# Altium footprint library PCB.PcbLib: 35 footprints (part 2 of 3)
Each footprint in its own frame and in the unit in brackets; x right, y up, seen from the top. Pads: shape width x height; smd on the part's side, far side on the other; paste and mask are expansions set on the pad; w line width, h text height; cw(c..) or ccw(c..) is an arc to the next point about the centre after c.
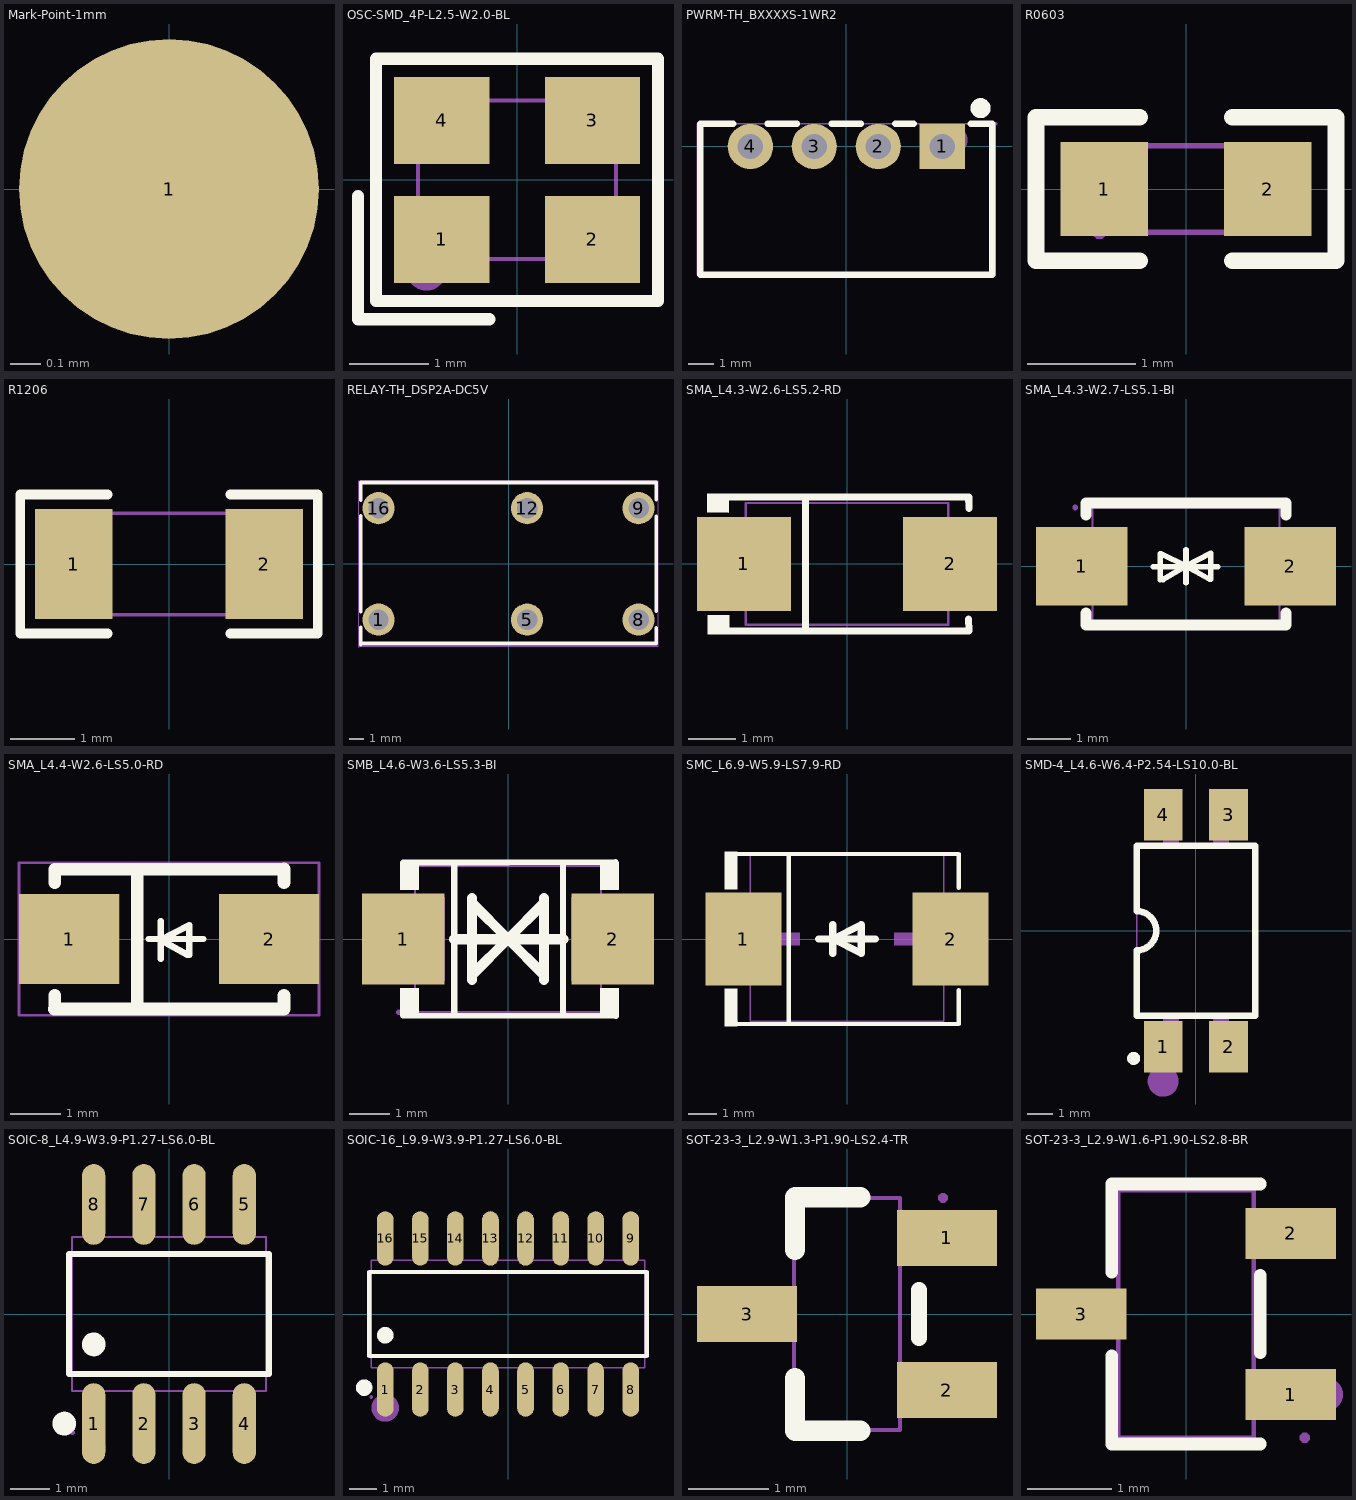
[diagram p1: the footprints below, top view; thin cyan lines are the x and y axes]

## Mark-Point-1mm [mm]
pads (1):
  round 1 smd paste-25.4 mask+0.051: 1(0,0)

## OSC-SMD_4P-L2.5-W2.0-BL [mm]
pads (4):
  rect 1.2x1.1 smd: 1(-0.95,-0.75) 2(0.95,-0.75) 3(0.95,0.75) 4(-0.95,0.75)
Top Overlay:
  lines w0.152: -2.007,-0.201 -2.007,-1.758 -0.351,-1.758 ; -1.779,-1.529 -1.779,1.529 1.779,1.529 1.779,-1.529 -1.779,-1.529
Mechanical 6:
  circle w0.254: c-1.143,-1.143 r0.127
  region: -1.143,0.635 -0.635,0.635 -0.635,0.508 -1.143,0.508
  region: -0.953,0.318 -0.953,0.826 -0.826,0.826 -0.826,0.318
  region: 0.635,-0.635 1.143,-0.635 1.143,-0.762 0.635,-0.762
Mechanical 15:
  region: -1.31,-1 -1.31,-1.025 -1.275,-1.06 -1.225,-1.06 -1.19,-1.025 -1.19,-1 -1.19,-0.975 -1.225,-0.94 -1.275,-0.94 -1.31,-0.975 -1.31,-1
  region: -1.25,1 -0.45,1 -0.45,0.325 -1.25,0.325
  region: -0.45,-1 -1.25,-1 -1.25,-0.325 -0.45,-0.325
  region: 1.25,0.325 0.45,0.325 0.45,1 1.25,1
  region: 1.25,-1 0.45,-1 0.45,-0.325 1.25,-0.325
  lines w0.051: -1.25,-1 -1.25,1 1.25,1 1.25,-1 -1.25,-1

## PWRM-TH_BXXXXS-1WR2 [mm]
pads (4):
  rect 1.8x1.8 hole 1: 1(3.81,0)
  round 1.8 hole 1: 2(1.27,0) 3(-1.27,0) 4(-3.81,0)
Top Overlay:
  circle w0.4: c5.334,1.524 r0.2
  lines w0.254: -4.494,0.9 -5.8,0.9 -5.8,-5.1 5.8,-5.1 5.8,0.9 4.941,0.9 ; -3.126,0.9 -1.954,0.9 ; -0.586,0.9 0.586,0.9 ; 1.954,0.9 2.679,0.9
Mechanical 6:
  circle w0.5: c4.318,0.254 r0.25
Mechanical 15:
  region: 4.06,-0.15 3.56,-0.15 3.56,0.15 4.06,0.15
  region: 1.52,0.15 1.52,-0.15 1.02,-0.15 1.02,0.15
  region: -1.02,0.15 -1.02,-0.15 -1.52,-0.15 -1.52,0.15
  region: -3.56,0.15 -3.56,-0.15 -4.06,-0.15 -4.06,0.15
  region: 5.987,0.9 5.987,0.925 5.952,0.96 5.902,0.96 5.867,0.925 5.867,0.9 5.867,0.875 5.902,0.84 5.952,0.84 5.987,0.875 5.987,0.9
  lines w0.051: -5.927,-5.1 -5.927,0.9 5.927,0.9 5.927,-5.1 -5.927,-5.1

## R0603 [mm]
pads (2):
  rect 0.806x0.864 smd paste-100 mask+0.051: 1(-0.753,0) 2(0.753,0)
Top Overlay:
  lines w0.152: -0.426,-0.661 -1.385,-0.661 -1.385,0.661 -0.426,0.661 ; 0.426,-0.661 1.385,-0.661 1.385,0.661 0.426,0.661
Top Paste:
  region: -1.195,-0.45 -0.395,-0.45 -0.345,-0.4 -0.345,-0.172 -0.715,-0.172 -0.715,0.158 -0.345,0.158 -0.345,0.4 -0.395,0.45 -1.195,0.45 -1.245,0.4 -1.245,-0.4
  region: 1.195,0.45 0.395,0.45 0.345,0.4 0.345,0.172 0.715,0.172 0.715,-0.158 0.345,-0.158 0.345,-0.4 0.395,-0.45 1.195,-0.45 1.245,-0.4 1.245,0.4
Mechanical 15:
  region: 0.8,-0.4 0.8,0.4 0.5,0.4 0.5,-0.4
  region: -0.8,-0.4 -0.8,0.4 -0.5,0.4 -0.5,-0.4
  region: -0.86,-0.4 -0.86,-0.425 -0.825,-0.46 -0.775,-0.46 -0.74,-0.425 -0.74,-0.4 -0.74,-0.375 -0.775,-0.34 -0.825,-0.34 -0.86,-0.375 -0.86,-0.4
  lines w0.051: -0.8,-0.4 0.8,-0.4 0.8,0.4 -0.8,0.4 -0.8,-0.4

## R1206 [mm]
pads (2):
  rect 1.208x1.701 smd paste-100 mask+0.051: 1(-1.479,0) 2(1.479,0)
Top Overlay:
  lines w0.152: -0.951,-1.079 -2.311,-1.079 -2.311,1.079 -0.951,1.079 ; 0.951,-1.079 2.311,-1.079 2.311,1.079 0.951,1.079
Top Paste:
  region: -0.875,-0.75 -0.875,-0.389 -0.975,-0.289 -1.186,-0.289 -1.286,-0.189 -1.286,0.189 -1.186,0.289 -0.975,0.289 -0.875,0.389 -0.875,0.75 -0.975,0.85 -1.983,0.85 -2.083,0.75 -2.083,-0.75 -1.983,-0.85 -0.975,-0.85
  region: 0.875,-0.75 0.875,-0.389 0.975,-0.289 1.186,-0.289 1.286,-0.189 1.286,0.189 1.186,0.289 0.975,0.289 0.875,0.389 0.875,0.75 0.975,0.85 1.983,0.85 2.083,0.75 2.083,-0.75 1.983,-0.85 0.975,-0.85
Mechanical 15:
  region: 1.55,-0.788 1.55,0.788 1.1,0.788 1.1,-0.788
  region: -1.55,-0.788 -1.55,0.788 -1.1,0.788 -1.1,-0.788
  region: -1.49,-0.787 -1.49,-0.763 -1.525,-0.727 -1.575,-0.728 -1.61,-0.763 -1.61,-0.788 -1.61,-0.812 -1.575,-0.847 -1.525,-0.847 -1.49,-0.812 -1.49,-0.787
  lines w0.051: -1.55,-0.788 1.55,-0.788 1.55,0.788 -1.55,0.788 -1.55,-0.788

## RELAY-TH_DSP2A-DC5V [mm]
pads (6):
  round 2.2 hole 1.4: 1(-8.89,-3.81) 5(1.27,-3.81) 8(8.89,-3.81) 9(8.89,3.81) 12(1.27,3.81) 16(-8.89,3.81)
Top Overlay:
  lines w0.254: -10.107,-5.515 -10.107,-4.345 ; -10.107,-5.447 10.092,-5.447 ; -10.107,-3.275 -10.107,3.275 ; -10.107,4.345 -10.107,5.563 10.092,5.563 10.092,4.378 ; 10.092,-5.395 10.092,-4.378 ; 10.092,-3.242 10.092,3.242
Mechanical 15:
  region: -8.89,-3.21 -9.008,-3.211 -9.226,-3.304 -9.393,-3.472 -9.483,-3.692 -9.483,-3.928 -9.393,-4.147 -9.226,-4.316 -9.008,-4.408 -8.89,-4.41 -8.772,-4.408 -8.554,-4.316 -8.387,-4.147 -8.297,-3.928 -8.297,-3.692 -8.387,-3.472 -8.554,-3.304 -8.772,-3.211 -8.89,-3.21
  region: 1.27,-3.21 1.152,-3.211 0.934,-3.304 0.767,-3.472 0.677,-3.692 0.677,-3.928 0.767,-4.147 0.934,-4.316 1.152,-4.408 1.27,-4.41 1.388,-4.408 1.606,-4.316 1.773,-4.147 1.863,-3.928 1.863,-3.692 1.773,-3.472 1.606,-3.304 1.388,-3.211 1.27,-3.21
  region: 8.89,-3.21 8.772,-3.211 8.554,-3.304 8.387,-3.472 8.297,-3.692 8.297,-3.928 8.387,-4.147 8.554,-4.316 8.772,-4.408 8.89,-4.41 9.008,-4.408 9.226,-4.316 9.393,-4.147 9.483,-3.928 9.483,-3.692 9.393,-3.472 9.226,-3.304 9.008,-3.211 8.89,-3.21
  region: 8.89,4.41 8.772,4.409 8.554,4.316 8.387,4.148 8.297,3.928 8.297,3.692 8.387,3.473 8.554,3.304 8.772,3.212 8.89,3.21 9.008,3.212 9.226,3.304 9.393,3.473 9.483,3.692 9.483,3.928 9.393,4.148 9.226,4.316 9.008,4.409 8.89,4.41
  region: 1.27,4.41 1.152,4.409 0.934,4.316 0.767,4.148 0.677,3.928 0.677,3.692 0.767,3.473 0.934,3.304 1.152,3.212 1.27,3.21 1.388,3.212 1.606,3.304 1.773,3.473 1.863,3.692 1.863,3.928 1.773,4.148 1.606,4.316 1.388,4.409 1.27,4.41
  region: -8.89,4.41 -9.008,4.409 -9.226,4.316 -9.393,4.148 -9.483,3.928 -9.483,3.692 -9.393,3.473 -9.226,3.304 -9.008,3.212 -8.89,3.21 -8.772,3.212 -8.554,3.304 -8.387,3.473 -8.297,3.692 -8.297,3.928 -8.387,4.148 -8.554,4.316 -8.772,4.409 -8.89,4.41
  region: -10.234,-5.582 -10.259,-5.583 -10.292,-5.618 -10.292,-5.666 -10.259,-5.701 -10.234,-5.702 -10.21,-5.701 -10.177,-5.666 -10.177,-5.618 -10.21,-5.583 -10.234,-5.582
  lines w0.051: -10.234,-5.642 10.219,-5.642 10.219,5.69 -10.234,5.69 -10.234,-5.642

## SMA_L4.3-W2.6-LS5.2-RD [mm]
pads (2):
  rect 2x2 smd: 1(-2.2,0) 2(2.2,0)
Top Overlay:
  region: -2.512,-1.096 -2.513,-1.503 -2.973,-1.498 -2.969,-1.096
  region: -2.52,1.502 -2.521,1.096 -2.981,1.1 -2.977,1.502
  lines w0.152: -2.596,-1.426 2.596,-1.426 ; -2.596,1.426 2.596,1.426 2.603,1.187 ; -0.884,-1.426 -0.884,1.426 ; 2.593,-1.176 2.6,-1.415
Mechanical 6:
  region: 2.014,-0.675 2.014,0.675 1.811,0.675 1.811,-0.675
  region: 2.29,-0.09 2.29,0.112 1.48,0.112 1.48,-0.09
  region: -2.317,-0.101 -2.317,0.101 -1.507,0.101 -1.507,-0.101
Mechanical 15:
  region: -1.48,0.725 -1.48,-0.725 -2.605,-0.725 -2.605,0.725
  region: 2.605,0.725 2.605,-0.725 1.48,-0.725 1.48,0.725
  region: -2.545,-1.3 -2.545,-1.275 -2.58,-1.24 -2.63,-1.24 -2.665,-1.275 -2.665,-1.3 -2.665,-1.325 -2.63,-1.36 -2.58,-1.36 -2.545,-1.325 -2.545,-1.3
  lines w0.051: -2.16,-1.3 2.16,-1.3 2.16,1.3 -2.16,1.3 -2.16,-1.3

## SMA_L4.3-W2.7-LS5.1-BI [mm]
pads (2):
  rect 2.1x1.8 smd: 1(-2.4,0) 2(2.4,0)
Top Overlay:
  lines w0.127: -0.758,-0.011 0.732,-0.011 ; -0.588,-0.311 -0.588,0.289 0,0 ; -0.528,-0.311 0,0 ; 0,-0.381 0,0 ; 0,0.381 0,0 ; 0.542,-0.301 0,0 ; 0.572,-0.301 0.572,0.299 0,0
  lines w0.254: -2.298,-1.082 -2.298,-1.351 2.302,-1.351 2.302,-1.082 ; -2.298,1.18 -2.298,1.449 2.302,1.449 2.302,1.18
Mechanical 15:
  region: 1.409,-0.725 1.409,0.725 2.549,0.725 2.549,-0.725
  region: -2.549,-0.725 -2.549,0.725 -1.409,0.725 -1.409,-0.725
  region: -2.549,1.29 -2.524,1.29 -2.489,1.325 -2.489,1.375 -2.524,1.41 -2.549,1.41 -2.574,1.41 -2.609,1.375 -2.609,1.325 -2.574,1.29 -2.549,1.29
  lines w0.051: -2.15,-1.35 2.15,-1.35 2.15,1.35 -2.15,1.35 -2.15,-1.35

## SMA_L4.4-W2.6-LS5.0-RD [mm]
pads (2):
  rect 2x1.8 smd paste+0 mask+0.102: 1(-2,0) 2(2,0)
Top Overlay:
  lines w0.127: -0.406,0 0.686,0 ; -0.166,-0.401 -0.166,-0.02 ; -0.166,0.361 -0.166,-0.02 ; 0.376,-0.321 -0.166,-0.02 ; 0.406,-0.321 0.406,0.279 -0.166,-0.02
  lines w0.254: -2.3,-1.4 2.3,-1.4 2.3,-1.131 ; -2.286,-1.4 -2.286,-1.131 ; -2.286,1.131 -2.286,1.397 2.3,1.397 ; -0.635,-1.4 -0.635,1.397 ; 2.3,1.131 2.3,1.4
Mechanical 15:
  region: -3,0.9 -1,0.9 -1,-0.9 -3,-0.9
  region: 1,0.9 3,0.9 3,-0.9 1,-0.9
  lines w0.051: -3.004,-1.527 -3.004,1.527 3,1.527 3,-1.527 -3.004,-1.527

## SMB_L4.6-W3.6-LS5.3-BI [mm]
pads (2):
  rect 2.047x2.241 smd: 1(-2.591,0) 2(2.591,0)
Top Overlay:
  region: -2.667,-1.905 -2.667,-1.215 -2.21,-1.215 -2.21,-1.905
  region: -2.667,1.905 -2.667,1.215 -2.21,1.215 -2.21,1.905
  region: 2.286,1.905 2.286,1.215 2.743,1.215 2.743,1.905
  region: 2.286,-1.905 2.286,-1.215 2.743,-1.215 2.743,-1.905
  lines w0.152: -2.599,-1.89 2.667,-1.905 ; -2.591,1.887 2.663,1.905 ; -1.331,-1.886 -1.331,1.886 ; 1.364,-1.886 1.364,1.886
  lines w0.254: -1.331,-0.008 1.364,-0.008 ; 0,0 -0.889,0.889 -0.889,1.016 -0.889,-1.016 -0.889,-0.889 0,0 ; 0,0 0.889,-0.889 0.889,-1.016 0.889,1.016 0.889,0.889 0,0
Mechanical 15:
  region: -2.708,1.037 -2.708,-1.037 -1.568,-1.037 -1.568,1.037
  region: 2.708,1.037 2.708,-1.037 1.568,-1.037 1.568,1.037
  region: -2.708,-1.75 -2.732,-1.75 -2.768,-1.785 -2.768,-1.835 -2.732,-1.87 -2.708,-1.87 -2.683,-1.87 -2.648,-1.835 -2.648,-1.785 -2.683,-1.75 -2.708,-1.75
  lines w0.051: -2.3,-1.81 -2.3,1.81 2.3,1.81 2.3,-1.81 -2.3,-1.81

## SMC_L6.9-W5.9-LS7.9-RD [mm]
pads (2):
  rect 2.7x3.3 smd: 1(-3.686,0) 2(3.686,0)
Top Overlay:
  region: -3.9,-3.102 -3.9,-1.772 -4.357,-1.772 -4.357,-3.102
  region: -3.9,3.102 -3.9,1.772 -4.357,1.772 -4.357,3.102
  lines w0.152: -3.976,-3.026 3.976,-3.026 3.976,-1.823 ; -3.976,3.026 3.976,3.026 3.976,1.823 ; -2.069,-3.026 -2.069,3.026
  lines w0.254: -1.016,0 1.016,0 ; -0.508,0.508 -0.508,-0.508 -0.508,0 ; -0.508,0 0.508,0.508 0.508,-0.508 -0.508,0
Mechanical 6:
  region: 2.794,-1.475 2.794,1.475 2.351,1.475 2.351,-1.475
  region: 3.457,-0.221 3.457,0.221 1.687,0.221 1.687,-0.221
  region: -3.457,-0.221 -3.457,0.221 -1.687,0.221 -1.687,-0.221
Mechanical 15:
  region: -3.95,-2.89 -3.975,-2.89 -4.01,-2.925 -4.01,-2.975 -3.975,-3.01 -3.95,-3.01 -3.925,-3.01 -3.89,-2.975 -3.89,-2.925 -3.925,-2.89 -3.95,-2.89
  region: 3.95,-1.5 3.95,1.5 2.7,1.5 2.7,-1.5
  region: -3.95,-1.5 -3.95,1.5 -2.7,1.5 -2.7,-1.5
  lines w0.051: -3.45,-2.921 3.45,-2.921 3.45,2.979 -3.45,2.979 -3.45,-2.921

## SMD-4_L4.6-W6.4-P2.54-LS10.0-BL [mm]
pads (4):
  rect 1.5x2 smd: 1(-1.27,-4.5) 2(1.27,-4.5) 3(1.27,4.5) 4(-1.27,4.5)
Top Overlay:
  circle w0.254: c-2.413,-4.953 r0.127
  lines w0.254: -2.301,-0.762 ccw(c-2.301,0) -2.3,0.762 -2.3,3.3 2.3,3.3 2.3,-3.3 -2.3,-3.3 -2.3,-0.762
Mechanical 6:
  circle w0.6: c-1.27,-5.842 r0.3
Mechanical 15:
  region: -2.24,-5.08 -2.24,-5.055 -2.275,-5.02 -2.325,-5.02 -2.36,-5.055 -2.36,-5.08 -2.36,-5.105 -2.325,-5.14 -2.275,-5.14 -2.24,-5.105 -2.24,-5.08
  region: 0.67,-4.09 0.67,-3.24 1.27,-3.24 1.27,-4.09
  region: 0.67,-5.08 0.67,-4.08 1.87,-4.08 1.87,-5.08
  region: -1.27,-4.09 -1.27,-3.24 -0.67,-3.24 -0.67,-4.09
  region: -1.87,-5.08 -1.87,-4.08 -0.67,-4.08 -0.67,-5.08
  region: 1.87,5.08 1.87,4.08 0.67,4.08 0.67,5.08
  region: 1.27,4.09 1.27,3.24 0.67,3.24 0.67,4.09
  region: -0.67,5.08 -0.67,4.08 -1.87,4.08 -1.87,5.08
  region: -0.67,4.09 -0.67,3.24 -1.27,3.24 -1.27,4.09
  lines w0.051: -2.3,-3.297 -2.3,3.297 2.3,3.297 2.3,-3.297 -2.3,-3.297

## SOIC-8_L4.9-W3.9-P1.27-LS6.0-BL [mm]
pads (8):
  oval 0.588x2.045 smd: 1(-1.905,-2.772) 2(-0.635,-2.772) 3(0.635,-2.772) 4(1.905,-2.772) 5(1.905,2.772) 6(0.635,2.772) 7(-0.635,2.772) 8(-1.905,2.772)
Top Overlay:
  circle w0.3: c-1.905,-0.769 r0.15
  circle w0.3: c-2.652,-2.772 r0.15
  lines w0.152: -2.526,-1.521 -2.526,1.521 2.526,1.521 2.526,-1.521 -2.526,-1.521
Mechanical 6:
  circle w0.3: c-1.905,-3.4 r0.15
Mechanical 15:
  region: -2.45,-3.06 -2.425,-3.06 -2.39,-3.025 -2.39,-2.975 -2.425,-2.94 -2.45,-2.94 -2.475,-2.94 -2.51,-2.975 -2.51,-3.025 -2.475,-3.06 -2.45,-3.06
  region: -2.115,-3 -2.115,-2.165 -1.695,-2.165 -1.695,-3
  region: -2.115,-2.175 -2.115,-1.94 -1.695,-1.94 -1.695,-2.175
  region: -0.845,-3 -0.845,-2.165 -0.425,-2.165 -0.425,-3
  region: -0.845,-2.175 -0.845,-1.94 -0.425,-1.94 -0.425,-2.175
  region: 0.425,-3 0.425,-2.165 0.845,-2.165 0.845,-3
  region: 0.425,-2.175 0.425,-1.94 0.845,-1.94 0.845,-2.175
  region: 1.695,-3 1.695,-2.165 2.115,-2.165 2.115,-3
  region: 1.695,-2.175 1.695,-1.94 2.115,-1.94 2.115,-2.175
  region: -2.115,3 -2.115,2.165 -1.695,2.165 -1.695,3
  region: -2.115,2.175 -2.115,1.94 -1.695,1.94 -1.695,2.175
  region: -0.845,3 -0.845,2.165 -0.425,2.165 -0.425,3
  region: -0.845,2.175 -0.845,1.94 -0.425,1.94 -0.425,2.175
  region: 0.425,3 0.425,2.165 0.845,2.165 0.845,3
  region: 0.425,2.175 0.425,1.94 0.845,1.94 0.845,2.175
  region: 1.695,3 1.695,2.165 2.115,2.165 2.115,3
  region: 1.695,2.175 1.695,1.94 2.115,1.94 2.115,2.175
  lines w0.051: -2.45,-1.95 -2.45,1.95 2.45,1.95 2.45,-1.95 -2.45,-1.95

## SOIC-16_L9.9-W3.9-P1.27-LS6.0-BL [mm]
pads (16):
  oval 0.602x1.971 smd: 1(-4.445,-2.736) 2(-3.175,-2.736) 3(-1.905,-2.736) 4(-0.635,-2.736) 5(0.635,-2.736) 6(1.905,-2.736) 7(3.175,-2.736) 8(4.445,-2.736) 9(4.445,2.736) 10(3.175,2.736) 11(1.905,2.736) 12(0.635,2.736) 13(-0.635,2.736) 14(-1.905,2.736) 15(-3.175,2.736) 16(-4.445,2.736)
Top Overlay:
  circle w0.3: c-5.207,-2.667 r0.15
  circle w0.3: c-4.445,-0.769 r0.15
  lines w0.152: -5.026,-1.521 5.026,-1.521 5.026,1.521 -5.026,1.521 -5.026,-1.521
Mechanical 6:
  circle w0.5: c-4.445,-3.4 r0.25
Mechanical 15:
  drawing of 37 lines, arcs and shapes, not listed

## SOT-23-3_L2.9-W1.3-P1.90-LS2.4-TR [mm]
pads (3):
  rect 1.25x0.7 smd: 1(1.25,0.95) 2(1.25,-0.95) 3(-1.25,0)
Top Overlay:
  lines w0.2: 0.9,-0.3 0.9,0.3
  lines w0.254: -0.65,-0.8 -0.65,-1.46 0.165,-1.46 ; 0.165,1.46 -0.65,1.46 ; -0.65,0.8 -0.65,1.46 ; -0.65,0.8 -0.65,1.46 ; -0.65,0.8 -0.65,1.46
Mechanical 6:
  circle w0.254: c1.496,0.945 r0.127
Mechanical 15:
  region: -1.2,-0.2 -1.2,0.2 -1,0.2 -1,-0.2
  region: -1.01,-0.2 -1.01,0.2 -0.628,0.2 -0.628,-0.2
  region: 1,0.75 1,1.15 1.2,1.15 1.2,0.75
  region: 0.628,0.75 0.628,1.15 1.01,1.15 1.01,0.75
  region: 1,-1.15 1,-0.75 1.2,-0.75 1.2,-1.15
  region: 0.628,-1.15 0.628,-0.75 1.01,-0.75 1.01,-1.15
  region: 1.26,1.45 1.26,1.475 1.225,1.51 1.175,1.51 1.14,1.475 1.14,1.45 1.14,1.425 1.175,1.39 1.225,1.39 1.26,1.425 1.26,1.45
  lines w0.051: -0.663,-1.45 0.662,-1.45 0.662,1.45 -0.663,1.45 -0.663,-1.45

## SOT-23-3_L2.9-W1.6-P1.90-LS2.8-BR [mm]
pads (3):
  rect 1.07x0.6 smd: 1(1.235,-0.95) 2(1.235,0.95) 3(-1.235,0)
Top Overlay:
  lines w0.152: -0.876,-0.495 -0.876,-1.536 0.876,-1.536 ; -0.876,0.495 -0.876,1.536 0.876,1.536 ; 0.876,-0.455 0.876,0.455
Mechanical 6:
  circle w0.2: c1.651,-0.95 r0.1
Mechanical 15:
  region: -0.96,-0.2 -0.96,0.2 -0.79,0.2 -0.79,-0.2
  region: -0.95,-0.2 -0.95,0.2 -1.4,0.2 -1.4,-0.2
  region: 0.79,0.75 0.79,1.15 0.96,1.15 0.96,0.75
  region: 0.95,0.75 0.95,1.15 1.4,1.15 1.4,0.75
  region: 0.79,-1.15 0.79,-0.75 0.96,-0.75 0.96,-1.15
  region: 0.95,-1.15 0.95,-0.75 1.4,-0.75 1.4,-1.15
  region: 1.4,-1.52 1.425,-1.52 1.46,-1.485 1.46,-1.435 1.425,-1.4 1.4,-1.4 1.375,-1.4 1.34,-1.435 1.34,-1.485 1.375,-1.52 1.4,-1.52
  lines w0.051: -0.8,-1.46 0.8,-1.46 0.8,1.46 -0.8,1.46 -0.8,-1.46